# Altium integrated library NXP_I2C_General_Purpose_IO.IntLib: 2 symbols
Pins are listed as number, name and electrical type; pins without a type are passive.

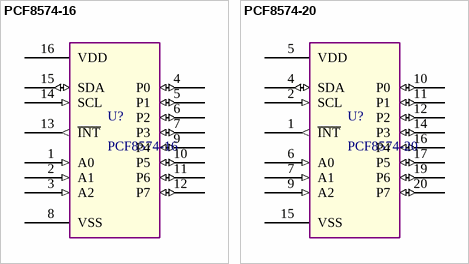
[diagram p0: symbols PCF8574-16 to PCF8574-20]

## PCF8574-16
designator U?
Remote 8-bit I/O expander for I2C-bus with interrupt. 16pins; Supplier 1: Mouser; Supplier Part Number 1: 771-PCF85AT3512
footprint SOT127P43X265-16 (SOT162-1)
footprint DIP762W45P254L19H32Q16 (DIP16 IPC-7351C)
pins: 1 A0 (in) "address input 0", 2 A1 (in) "address input 1", 3 A2 (in) "address input 2", 4 P0 (io) "quasi-bidirectional I/O 0", 5 P1 (io) "quasi-bidirectional I/O 1", 6 P2 (io) "quasi-bidirectional I/O 2", 7 P3 (io) "quasi-bidirectional I/O 3", 8 VSS (power) "supply ground", 9 P4 (io) "quasi-bidirectional I/O 4", 10 P5 (io) "quasi-bidirectional I/O 5", 11 P6 (io) "quasi-bidirectional I/O 6", 12 P7 (io) "quasi-bidirectional I/O 7", 13 ~{INT} (out) "interrupt output (active LOW)", 14 SCL (in) "serial clock line", 15 SDA (io) "serial data line", 16 VDD (power) "supply voltage"

## PCF8574-20
designator U?
Remote 8-bit I/O expander for I2C-bus with interrupt. 20pins; Supplier 1: RSComponents; Supplier Part Number 1: 510784
footprint SOP65P640X150-20 (IPC-7351C)
footprint SOP65P640X150-20 (IPC-7351C)
pins: 1 ~{INT} (out) "interrupt output (active LOW)", 2 SCL (in) "serial clock line", 3 nc hidden "not connected", 4 SDA (io) "serial data line", 5 VDD (power) "supply voltage", 6 A0 (in) "address input 0", 7 A1 (in) "address input 1", 8 nc hidden "not connected", 9 A2 (in) "address input 2", 10 P0 (io) "quasi-bidirectional I/O 0", 11 P1 (io) "quasi-bidirectional I/O 1", 12 P2 (io) "quasi-bidirectional I/O 2", 13 nc hidden "not connected", 14 P3 (io) "quasi-bidirectional I/O 3", 15 VSS (power) "supply ground", 16 P4 (io) "quasi-bidirectional I/O 4", 17 P5 (io) "quasi-bidirectional I/O 5", 18 nc hidden "not connected", 19 P6 (io) "quasi-bidirectional I/O 6", 20 P7 (io) "quasi-bidirectional I/O 7"